# Altium footprint library SOIC127P254X160-8N.PcbLib: 1 footprints
Each footprint in its own frame and in the unit in brackets; x right, y up, seen from the top. Pads: shape width x height; smd on the part's side, far side on the other; paste and mask are expansions set on the pad; w line width, h text height; cw(c..) or ccw(c..) is an arc to the next point about the centre after c.
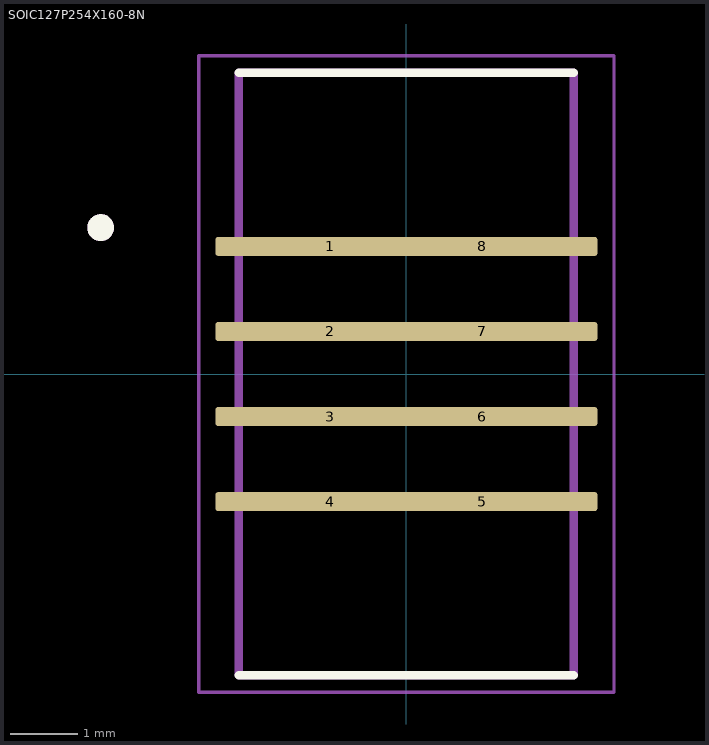
[diagram p0: the footprint, top view; thin cyan lines are the x and y axes]

## SOIC127P254X160-8N [mm]
pads (8):
  rrect25% 3.43x0.28 smd: 1(-1.135,1.905) 2(-1.135,0.635) 3(-1.135,-0.635) 4(-1.135,-1.905) 5(1.135,-1.905) 6(1.135,-0.635) 7(1.135,0.635) 8(1.135,1.905)
Top Overlay:
  circle w0.2: c-4.565,2.185 r0.1
  lines w0.127: -2.5,-4.5 2.5,-4.5 ; -2.5,4.5 2.5,4.5
Mechanical 13:
  circle w0.2: c-4.565,2.185 r0.1
  lines w0.127: -2.5,-4.5 -2.5,4.5 2.5,4.5 2.5,-4.5 -2.5,-4.5
Mechanical 15:
  lines w0.05: -3.1,-4.75 -3.1,4.75 3.1,4.75 3.1,-4.75 -3.1,-4.75
3D body "step_temp.STEP": height 1.75, standoff 0, extent -2.997,-2.451 2.997,2.451